# Altium footprint library Diod.PcbLib: 392 footprints (part 14 of 25)
Each footprint in its own frame and in the unit in brackets; x right, y up, seen from the top. Pads: shape width x height; smd on the part's side, far side on the other; paste and mask are expansions set on the pad; w line width, h text height; cw(c..) or ccw(c..) is an arc to the next point about the centre after c.
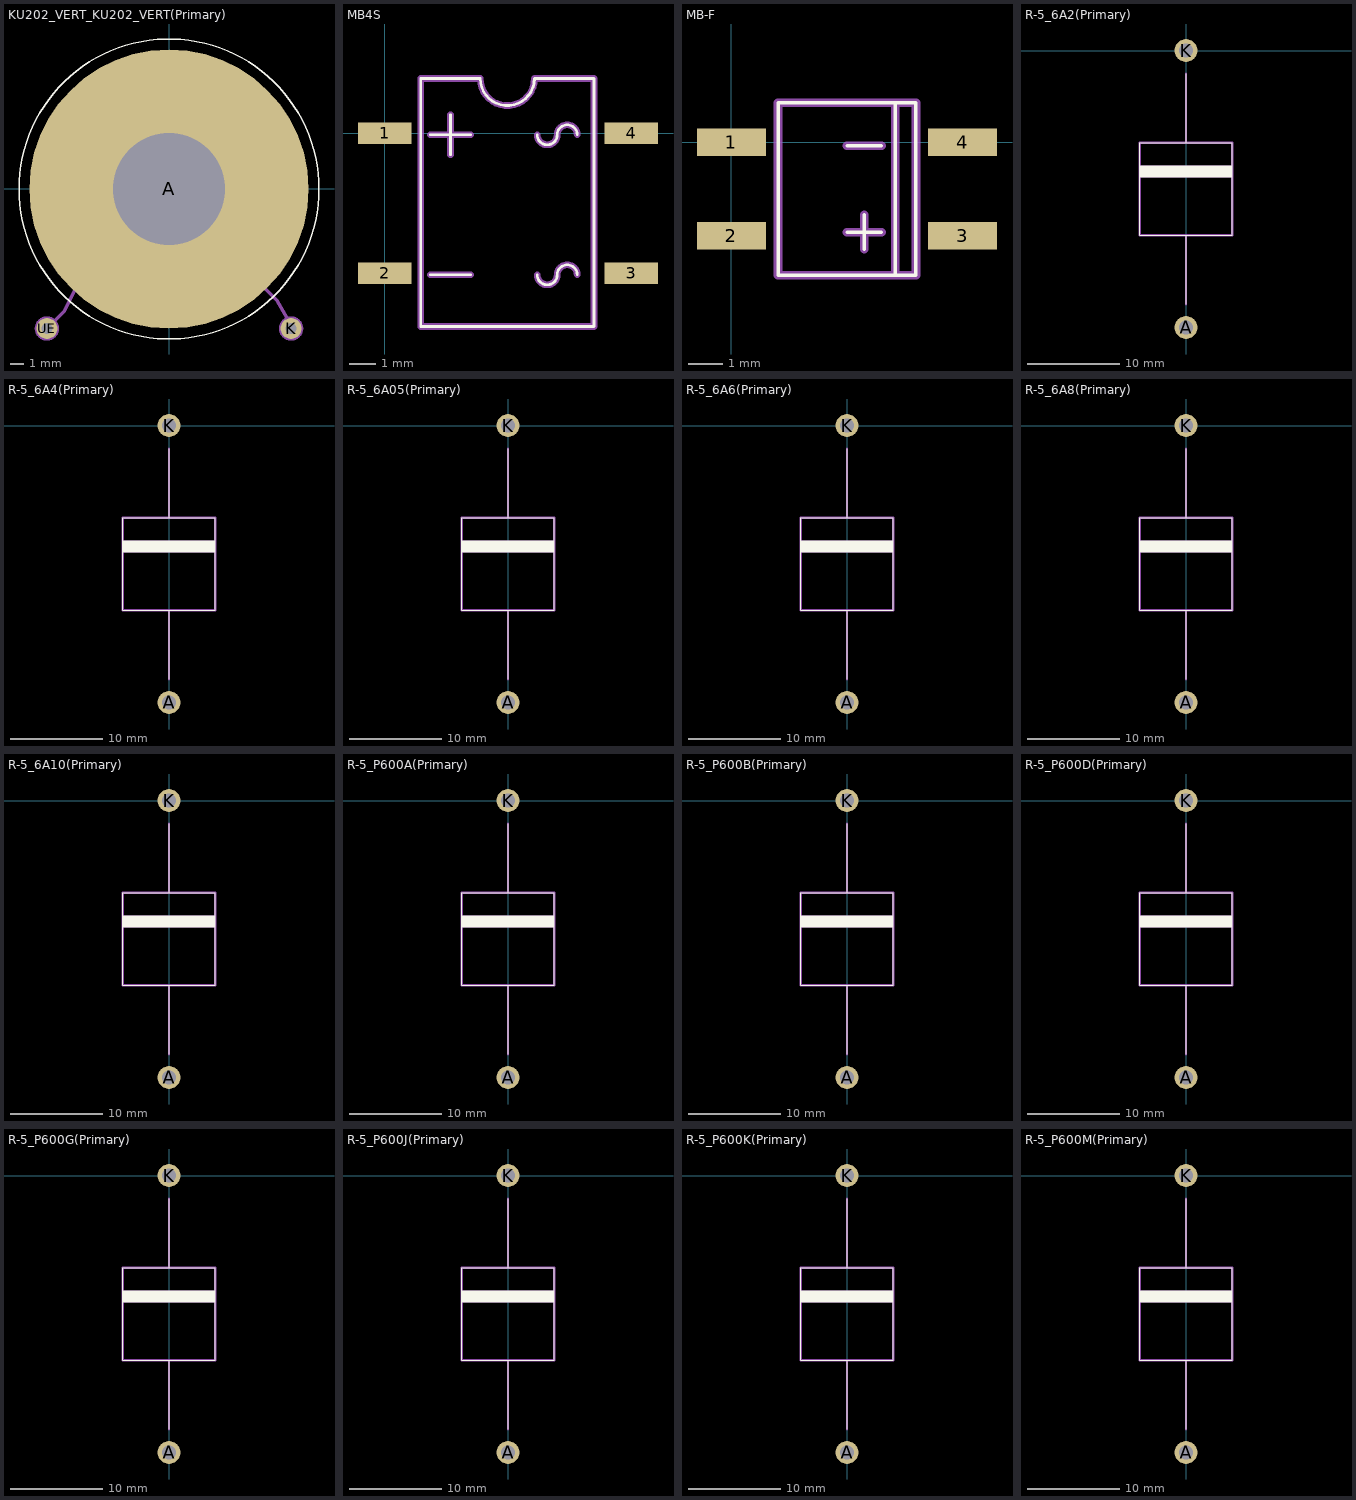
[diagram p13: the footprints below, top view; thin cyan lines are the x and y axes]

## KU202_VERT_KU202_VERT(Primary) [mm]
pads (3):
  round 20 hole 8: A(0,0)
  round 1.5 hole 0.8: K(8.75,-10) UE(-8.75,-10)
Top Overlay:
  lines w0.1: -10.75,0 cw(c0,0) 10.75,0 cw(c0,0) -10.75,0
Mechanical 1:
  lines w0.25: -8.75,-10 -7.5,-8.75 -6.25,-6.25 -6.25,-3.75 -5,0 ; -5.25,0 -3,0 ; 3,-4.25 3,1 2.5,1 ; 3,-3.5 4.25,-4.25 6,-5.75 6.75,-7 7.75,-8 8.75,-9.75 ; 3,-1.25 2.5,-1.25 ; -3,0 ccw(c-3.5,0) -4,0 ccw(c-3.5,0) -3,0 ; 2.5,-1.25 2.75,-1.25 2.75,1 2.5,1 ; 2.5,-1.25 2.5,1 ; -9.5,-10 cw(c-8.75,-10) -8,-10 cw(c-8.75,-10) -9.5,-10 ; -8.75,0 -5,7.5 5,7.5 8.75,0 5,-7.5 -5,-7.5 -8.75,0 ; -6.25,0 cw(c0,0) 6.25,0 cw(c0,0) -6.25,0 ; 8,-10 cw(c8.75,-10) 9.5,-10 cw(c8.75,-10) 8,-10

## MB4S [mm]
pads (4):
  rect 2x0.8 smd: 1(0,0) 2(0,-5.25) 3(9.25,-5.25) 4(9.25,0)
Top Overlay:
  lines w0.1: 1.72,-5.31 3.22,-5.31 ; 1.72,-0.06 3.22,-0.06 ; 2.47,-0.81 2.47,0.69 ; 5.72,-5.31 ccw(c6.095,-5.31) 6.47,-5.31 cw(c6.845,-5.31) 7.22,-5.31 ; 5.72,-0.06 ccw(c6.095,-0.06) 6.47,-0.06 cw(c6.845,-0.06) 7.22,-0.06 ; 1.35,-7.25 7.85,-7.25 7.85,2.05 5.616,2.05 cw(c4.6,2.05) 3.584,2.05 1.35,2.05 1.35,-7.25
Mechanical 1:
  lines w0.25: 1.72,-5.31 3.22,-5.31 ; 1.72,-0.06 3.22,-0.06 ; 2.47,-0.81 2.47,0.69 ; 5.72,-5.31 ccw(c6.095,-5.31) 6.47,-5.31 cw(c6.845,-5.31) 7.22,-5.31 ; 5.72,-0.06 ccw(c6.095,-0.06) 6.47,-0.06 cw(c6.845,-0.06) 7.22,-0.06 ; 1.35,-7.25 7.85,-7.25 7.85,2.05 5.616,2.05 cw(c4.6,2.05) 3.584,2.05 1.35,2.05 1.35,-7.25

## MB-F [mm]
pads (4):
  rect 2x0.8 smd: 1(0,0) 2(0,-2.7) 3(6.7,-2.7) 4(6.7,0)
Top Overlay:
  lines w0.1: 3.35,-2.6 4.35,-2.6 ; 3.35,-0.1 4.35,-0.1 ; 3.85,-3.1 3.85,-2.1 ; 4.75,-3.85 4.75,1.15 ; 1.35,-3.85 5.35,-3.85 5.35,1.15 1.35,1.15 1.35,-3.85
Mechanical 1:
  lines w0.25: 3.35,-2.6 4.35,-2.6 ; 3.35,-0.1 4.35,-0.1 ; 3.85,-3.1 3.85,-2.1 ; 4.75,-3.85 4.75,1.15 ; 1.35,-3.85 5.35,-3.85 5.35,1.15 1.35,1.15 1.35,-3.85

## R-5_6A2(Primary) [mm]
pads (2):
  round 2.5 hole 1.5: A(0,-30) K(0,0)
Top Overlay:
  region: -5,-13.75 5,-13.75 5,-12.5 -5,-12.5
  lines w0.1: 0,-27.5 0,-20 ; 0,-10 0,-2.5 ; -5,-20 5,-20 5,-10 -5,-10 -5,-20
Mechanical 1:
  region: -5,-13.75 5,-13.75 5,-12.5 -5,-12.5
  lines w0.25: 0,-27.5 0,-20 ; 0,-10 0,-2.5 ; -5,-20 5,-20 5,-10 -5,-10 -5,-20

## R-5_6A4(Primary) [mm]
pads (2):
  round 2.5 hole 1.5: A(0,-30) K(0,0)
Top Overlay:
  region: -5,-13.75 5,-13.75 5,-12.5 -5,-12.5
  lines w0.1: 0,-27.5 0,-20 ; 0,-10 0,-2.5 ; -5,-20 5,-20 5,-10 -5,-10 -5,-20
Mechanical 1:
  region: -5,-13.75 5,-13.75 5,-12.5 -5,-12.5
  lines w0.25: 0,-27.5 0,-20 ; 0,-10 0,-2.5 ; -5,-20 5,-20 5,-10 -5,-10 -5,-20

## R-5_6A05(Primary) [mm]
pads (2):
  round 2.5 hole 1.5: A(0,-30) K(0,0)
Top Overlay:
  region: -5,-13.75 5,-13.75 5,-12.5 -5,-12.5
  lines w0.1: 0,-27.5 0,-20 ; 0,-10 0,-2.5 ; -5,-20 5,-20 5,-10 -5,-10 -5,-20
Mechanical 1:
  region: -5,-13.75 5,-13.75 5,-12.5 -5,-12.5
  lines w0.25: 0,-27.5 0,-20 ; 0,-10 0,-2.5 ; -5,-20 5,-20 5,-10 -5,-10 -5,-20

## R-5_6A6(Primary) [mm]
pads (2):
  round 2.5 hole 1.5: A(0,-30) K(0,0)
Top Overlay:
  region: -5,-13.75 5,-13.75 5,-12.5 -5,-12.5
  lines w0.1: 0,-27.5 0,-20 ; 0,-10 0,-2.5 ; -5,-20 5,-20 5,-10 -5,-10 -5,-20
Mechanical 1:
  region: -5,-13.75 5,-13.75 5,-12.5 -5,-12.5
  lines w0.25: 0,-27.5 0,-20 ; 0,-10 0,-2.5 ; -5,-20 5,-20 5,-10 -5,-10 -5,-20

## R-5_6A8(Primary) [mm]
pads (2):
  round 2.5 hole 1.5: A(0,-30) K(0,0)
Top Overlay:
  region: -5,-13.75 5,-13.75 5,-12.5 -5,-12.5
  lines w0.1: 0,-27.5 0,-20 ; 0,-10 0,-2.5 ; -5,-20 5,-20 5,-10 -5,-10 -5,-20
Mechanical 1:
  region: -5,-13.75 5,-13.75 5,-12.5 -5,-12.5
  lines w0.25: 0,-27.5 0,-20 ; 0,-10 0,-2.5 ; -5,-20 5,-20 5,-10 -5,-10 -5,-20

## R-5_6A10(Primary) [mm]
pads (2):
  round 2.5 hole 1.5: A(0,-30) K(0,0)
Top Overlay:
  region: -5,-13.75 5,-13.75 5,-12.5 -5,-12.5
  lines w0.1: 0,-27.5 0,-20 ; 0,-10 0,-2.5 ; -5,-20 5,-20 5,-10 -5,-10 -5,-20
Mechanical 1:
  region: -5,-13.75 5,-13.75 5,-12.5 -5,-12.5
  lines w0.25: 0,-27.5 0,-20 ; 0,-10 0,-2.5 ; -5,-20 5,-20 5,-10 -5,-10 -5,-20

## R-5_P600A(Primary) [mm]
pads (2):
  round 2.5 hole 1.5: A(0,-30) K(0,0)
Top Overlay:
  region: -5,-13.75 5,-13.75 5,-12.5 -5,-12.5
  lines w0.1: 0,-27.5 0,-20 ; 0,-10 0,-2.5 ; -5,-20 5,-20 5,-10 -5,-10 -5,-20
Mechanical 1:
  region: -5,-13.75 5,-13.75 5,-12.5 -5,-12.5
  lines w0.25: 0,-27.5 0,-20 ; 0,-10 0,-2.5 ; -5,-20 5,-20 5,-10 -5,-10 -5,-20

## R-5_P600B(Primary) [mm]
pads (2):
  round 2.5 hole 1.5: A(0,-30) K(0,0)
Top Overlay:
  region: -5,-13.75 5,-13.75 5,-12.5 -5,-12.5
  lines w0.1: 0,-27.5 0,-20 ; 0,-10 0,-2.5 ; -5,-20 5,-20 5,-10 -5,-10 -5,-20
Mechanical 1:
  region: -5,-13.75 5,-13.75 5,-12.5 -5,-12.5
  lines w0.25: 0,-27.5 0,-20 ; 0,-10 0,-2.5 ; -5,-20 5,-20 5,-10 -5,-10 -5,-20

## R-5_P600D(Primary) [mm]
pads (2):
  round 2.5 hole 1.5: A(0,-30) K(0,0)
Top Overlay:
  region: -5,-13.75 5,-13.75 5,-12.5 -5,-12.5
  lines w0.1: 0,-27.5 0,-20 ; 0,-10 0,-2.5 ; -5,-20 5,-20 5,-10 -5,-10 -5,-20
Mechanical 1:
  region: -5,-13.75 5,-13.75 5,-12.5 -5,-12.5
  lines w0.25: 0,-27.5 0,-20 ; 0,-10 0,-2.5 ; -5,-20 5,-20 5,-10 -5,-10 -5,-20

## R-5_P600G(Primary) [mm]
pads (2):
  round 2.5 hole 1.5: A(0,-30) K(0,0)
Top Overlay:
  region: -5,-13.75 5,-13.75 5,-12.5 -5,-12.5
  lines w0.1: 0,-27.5 0,-20 ; 0,-10 0,-2.5 ; -5,-20 5,-20 5,-10 -5,-10 -5,-20
Mechanical 1:
  region: -5,-13.75 5,-13.75 5,-12.5 -5,-12.5
  lines w0.25: 0,-27.5 0,-20 ; 0,-10 0,-2.5 ; -5,-20 5,-20 5,-10 -5,-10 -5,-20

## R-5_P600J(Primary) [mm]
pads (2):
  round 2.5 hole 1.5: A(0,-30) K(0,0)
Top Overlay:
  region: -5,-13.75 5,-13.75 5,-12.5 -5,-12.5
  lines w0.1: 0,-27.5 0,-20 ; 0,-10 0,-2.5 ; -5,-20 5,-20 5,-10 -5,-10 -5,-20
Mechanical 1:
  region: -5,-13.75 5,-13.75 5,-12.5 -5,-12.5
  lines w0.25: 0,-27.5 0,-20 ; 0,-10 0,-2.5 ; -5,-20 5,-20 5,-10 -5,-10 -5,-20

## R-5_P600K(Primary) [mm]
pads (2):
  round 2.5 hole 1.5: A(0,-30) K(0,0)
Top Overlay:
  region: -5,-13.75 5,-13.75 5,-12.5 -5,-12.5
  lines w0.1: 0,-27.5 0,-20 ; 0,-10 0,-2.5 ; -5,-20 5,-20 5,-10 -5,-10 -5,-20
Mechanical 1:
  region: -5,-13.75 5,-13.75 5,-12.5 -5,-12.5
  lines w0.25: 0,-27.5 0,-20 ; 0,-10 0,-2.5 ; -5,-20 5,-20 5,-10 -5,-10 -5,-20

## R-5_P600M(Primary) [mm]
pads (2):
  round 2.5 hole 1.5: A(0,-30) K(0,0)
Top Overlay:
  region: -5,-13.75 5,-13.75 5,-12.5 -5,-12.5
  lines w0.1: 0,-27.5 0,-20 ; 0,-10 0,-2.5 ; -5,-20 5,-20 5,-10 -5,-10 -5,-20
Mechanical 1:
  region: -5,-13.75 5,-13.75 5,-12.5 -5,-12.5
  lines w0.25: 0,-27.5 0,-20 ; 0,-10 0,-2.5 ; -5,-20 5,-20 5,-10 -5,-10 -5,-20